# EAGLE library part HSF8-040_3U_315MM (library NewSDR)
Storm 3U x 315mm for Samtec HSF8-040 Connector
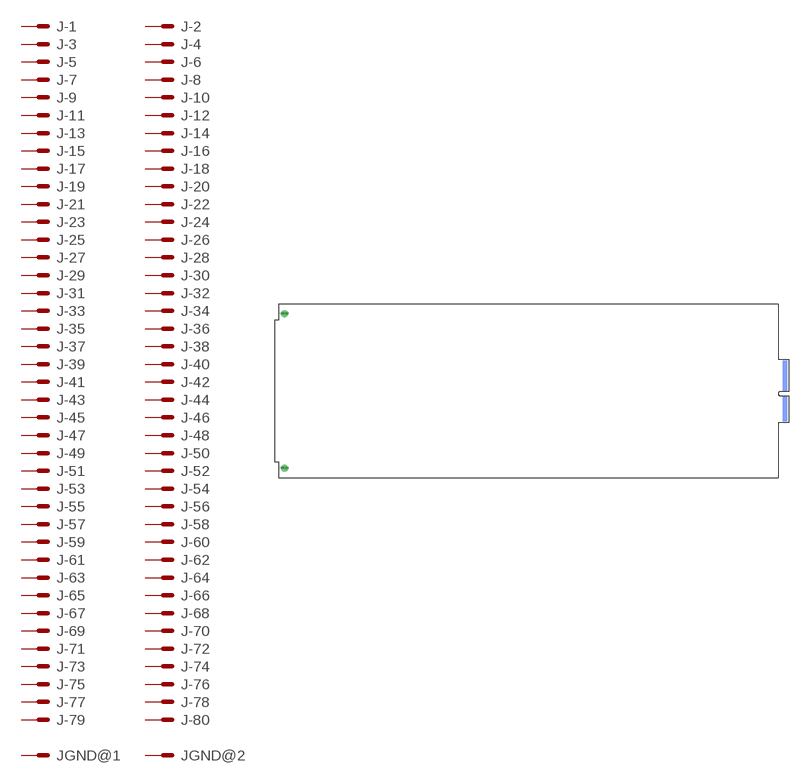
[diagram p148: symbol with the pads of HSF8-040_3U_315MM; footprint HSF8-040_3U_315MM]

Designator prefix J; gates GND@1=MS GND@2=MS -1=MS -2=MS -3=MS -4=MS -5=MS -6=MS -7=MS -8=MS -9=MS -10=MS -11=MS -12=MS -13=MS -14=MS -15=MS -16=MS -17=MS -18=MS -19=MS -20=MS -21=MS -22=MS -23=MS -24=MS -25=MS -26=MS -27=MS -28=MS -29=MS -30=MS -31=MS -32=MS -33=MS -34=MS -35=MS -36=MS -37=MS -38=MS -39=MS -40=MS -41=MS -42=MS -43=MS -44=MS -45=MS -46=MS -47=MS -48=MS -49=MS -50=MS -51=MS -52=MS -53=MS -54=MS -55=MS -56=MS -57=MS -58=MS -59=MS -60=MS -61=MS -62=MS -63=MS -64=MS -65=MS -66=MS -67=MS -68=MS -69=MS -70=MS -71=MS -72=MS -73=MS -74=MS -75=MS -76=MS -77=MS -78=MS -79=MS -80=MS

## HSF8-040_3U_315MM  [HSF8-040_3U_315MM]
1  -1:MS  pas
2  -2:MS  pas
3  -3:MS  pas
4  -4:MS  pas
5  -5:MS  pas
6  -6:MS  pas
7  -7:MS  pas
8  -8:MS  pas
9  -9:MS  pas
10  -10:MS  pas
11  -11:MS  pas
12  -12:MS  pas
13  -13:MS  pas
14  -14:MS  pas
15  -15:MS  pas
16  -16:MS  pas
17  -17:MS  pas
18  -18:MS  pas
19  -19:MS  pas
20  -20:MS  pas
21  -21:MS  pas
22  -22:MS  pas
23  -23:MS  pas
24  -24:MS  pas
25  -25:MS  pas
26  -26:MS  pas
27  -27:MS  pas
28  -28:MS  pas
29  -29:MS  pas
30  -30:MS  pas
31  -31:MS  pas
32  -32:MS  pas
33  -33:MS  pas
34  -34:MS  pas
35  -35:MS  pas
36  -36:MS  pas
37  -37:MS  pas
38  -38:MS  pas
39  -39:MS  pas
40  -40:MS  pas
41  -41:MS  pas
42  -42:MS  pas
43  -43:MS  pas
44  -44:MS  pas
45  -45:MS  pas
46  -46:MS  pas
47  -47:MS  pas
48  -48:MS  pas
49  -49:MS  pas
50  -50:MS  pas
51  -51:MS  pas
52  -52:MS  pas
53  -53:MS  pas
54  -54:MS  pas
55  -55:MS  pas
56  -56:MS  pas
57  -57:MS  pas
58  -58:MS  pas
59  -59:MS  pas
60  -60:MS  pas
61  -61:MS  pas
62  -62:MS  pas
63  -63:MS  pas
64  -64:MS  pas
65  -65:MS  pas
66  -66:MS  pas
67  -67:MS  pas
68  -68:MS  pas
69  -69:MS  pas
70  -70:MS  pas
71  -71:MS  pas
72  -72:MS  pas
73  -73:MS  pas
74  -74:MS  pas
75  -75:MS  pas
76  -76:MS  pas
77  -77:MS  pas
78  -78:MS  pas
79  -79:MS  pas
80  -80:MS  pas
GND@1  GND@1:MS  pas
GND@2  GND@2:MS  pas

## Footprint HSF8-040_3U_315MM (pad centres in mm)
Storm 3U x 315mm for Samtec HSF8-040 Connector Centered
smd 2.6 x 0.55 bottom: 1 291.733,67.225; 3 291.733,66.425; 5 291.733,65.625; 7 291.733,64.825; 9 291.733,64.025; 11 291.733,63.225; 13 291.733,62.425; 15 291.733,61.625; 17 291.733,60.825; 19 291.733,60.025; 21 291.733,59.225; 23 291.733,58.425; 25 291.733,57.625; 27 291.733,56.825; 29 291.733,56.025; 31 291.733,55.225; 33 291.733,54.425; 35 291.733,53.625; 37 291.733,52.825; 39 291.733,52.025; 41 291.733,51.225; 43 291.733,50.425; 45 291.733,46.425; 47 291.733,45.625; 49 291.733,44.825; 51 291.733,44.025; 53 291.733,43.225; 55 291.733,42.425; 57 291.733,41.625; 59 291.733,40.825; 61 291.733,40.025; 63 291.733,39.225; 65 291.733,38.425; 67 291.733,37.625; 69 291.733,36.825; 71 291.733,36.025; 73 291.733,35.225; 75 291.733,34.425; 77 291.733,33.625; 79 291.733,32.825
smd 2.6 x 0.55: 2 291.733,67.225; 4 291.733,66.425; 6 291.733,65.625; 8 291.733,64.825; 10 291.733,64.025; 12 291.733,63.225; 14 291.733,62.425; 16 291.733,61.625; 18 291.733,60.825; 20 291.733,60.025; 22 291.733,59.225; 24 291.733,58.425; 26 291.733,57.625; 28 291.733,56.825; 30 291.733,56.025; 32 291.733,55.225; 34 291.733,54.425; 36 291.733,53.625; 38 291.733,52.825; 40 291.733,52.025; 42 291.733,51.225; 44 291.733,50.425; 46 291.733,46.425; 48 291.733,45.625; 50 291.733,44.825; 52 291.733,44.025; 54 291.733,43.225; 56 291.733,42.425; 58 291.733,41.625; 60 291.733,40.825; 62 291.733,40.025; 64 291.733,39.225; 66 291.733,38.425; 68 291.733,37.625; 70 291.733,36.825; 72 291.733,36.025; 74 291.733,35.225; 76 291.733,34.425; 78 291.733,33.625; 80 291.733,32.825
drill 2.718 pad 4.013: GND@1 3.556,5.55; GND@2 3.556,94.45